# Altium footprint library Connector_JST.PcbLib: 558 footprints (part 5 of 35)
Each footprint in its own frame and in the unit in brackets; x right, y up, seen from the top. Pads: shape width x height; smd on the part's side, far side on the other; paste and mask are expansions set on the pad; w line width, h text height; cw(c..) or ccw(c..) is an arc to the next point about the centre after c.
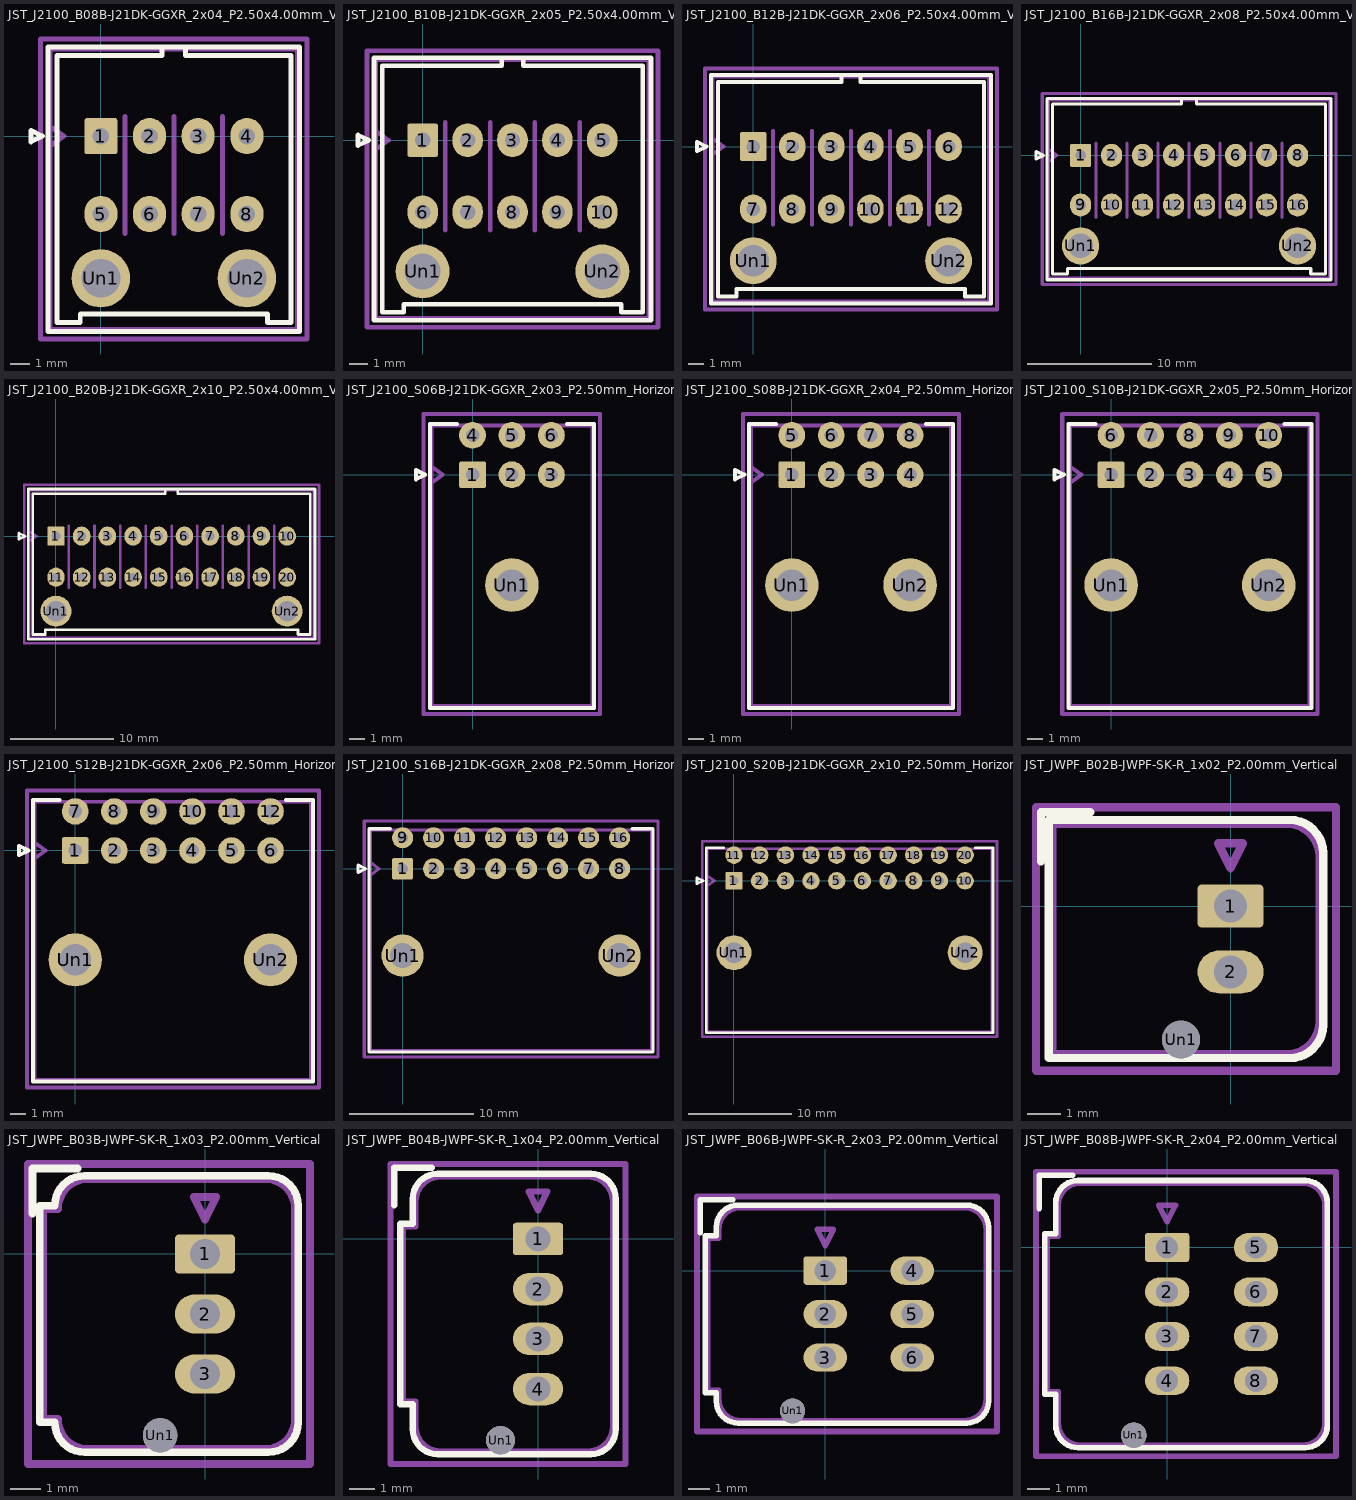
[diagram p4: the footprints below, top view; thin cyan lines are the x and y axes]

## JST_J2100_B08B-J21DK-GGXR_2x04_P2.50x4.00mm_Vertical [mm] "JST_J2100_B08B-J21DK-GGXR_2x04_P2.50x4.00mm_Vertical"
pads (10):
  rrect15% 1.7x1.86 hole 0.86: 1(0,0)
  rrect100% 1.7x1.86 hole 0.86: 2(2.5,0) 3(5,0) 4(7.5,0) 5(0,-4) 6(2.5,-4) 7(5,-4) 8(7.5,-4)
  round 3 hole 2: Un1(0,-7.3) Un2(7.5,-7.3)
F.SilkS:
  lines w0.254: 3.15,4.59 3.15,4.14 -2.26,4.14 -2.26,-9.58 -1.06,-9.58 -1.06,-9.13 3.75,-9.13 8.56,-9.13 8.56,-9.58 9.76,-9.58 9.76,4.14 4.35,4.14 4.35,4.59 ; -3.6,-0.3 -3,0 -3.6,0.3 -3.6,-0.3 ; -2.71,-10.03 10.21,-10.03 10.21,4.59 -2.71,4.59 -2.71,-10.03
Top Component Center:
  lines w0.127: -0.127,0 0.127,0 ; 0,-0.127 0,0.127
Top Assembly:
  lines w0.254: -2.6,-0.5 -1.893,0 -2.6,0.5 ; 1.25,-5 1.25,1 ; 3.75,-5 3.75,1 ; 6.25,-5 6.25,1 ; -2.6,-9.92 10.1,-9.92 10.1,4.48 -2.6,4.48 -2.6,-9.92
Top Courtyard:
  lines w0.254: -3.1,-10.42 10.6,-10.42 10.6,4.99 -3.1,4.99 -3.1,-10.42
Top Designator:
  text ".Designator" at 0.253,2.45 h1.52

## JST_J2100_B10B-J21DK-GGXR_2x05_P2.50x4.00mm_Vertical [mm] "JST_J2100_B10B-J21DK-GGXR_2x05_P2.50x4.00mm_Vertical"
pads (12):
  rrect15% 1.7x1.86 hole 0.86: 1(0,0)
  rrect100% 1.7x1.86 hole 0.86: 2(2.5,0) 3(5,0) 4(7.5,0) 5(10,0) 6(0,-4) 7(2.5,-4) 8(5,-4) 9(7.5,-4) 10(10,-4)
  round 3 hole 2: Un1(0,-7.3) Un2(10,-7.3)
F.SilkS:
  lines w0.254: 4.4,4.59 4.4,4.14 -2.26,4.14 -2.26,-9.58 -1.06,-9.58 -1.06,-9.13 5,-9.13 11.06,-9.13 11.06,-9.58 12.26,-9.58 12.26,4.14 5.6,4.14 5.6,4.59 ; -3.6,-0.3 -3,0 -3.6,0.3 -3.6,-0.3 ; -2.71,-10.03 12.71,-10.03 12.71,4.59 -2.71,4.59 -2.71,-10.03
Top Component Center:
  lines w0.127: -0.127,0 0.127,0 ; 0,-0.127 0,0.127
Top Assembly:
  lines w0.254: -2.6,-0.5 -1.893,0 -2.6,0.5 ; 1.25,-5 1.25,1 ; 3.75,-5 3.75,1 ; 6.25,-5 6.25,1 ; 8.75,-5 8.75,1 ; -2.6,-9.92 12.6,-9.92 12.6,4.48 -2.6,4.48 -2.6,-9.92
Top Courtyard:
  lines w0.254: -3.1,-10.42 13.1,-10.42 13.1,4.99 -3.1,4.99 -3.1,-10.42
Top Designator:
  text ".Designator" at 1.65,2.45 h1.52

## JST_J2100_B12B-J21DK-GGXR_2x06_P2.50x4.00mm_Vertical [mm] "JST_J2100_B12B-J21DK-GGXR_2x06_P2.50x4.00mm_Vertical"
pads (14):
  rrect15% 1.7x1.86 hole 0.86: 1(0,0)
  rrect100% 1.7x1.86 hole 0.86: 2(2.5,0) 3(5,0) 4(7.5,0) 5(10,0) 6(12.5,0) 7(0,-4) 8(2.5,-4) 9(5,-4) 10(7.5,-4) 11(10,-4) 12(12.5,-4)
  round 3 hole 2: Un1(0,-7.3) Un2(12.5,-7.3)
F.SilkS:
  lines w0.254: 5.65,4.59 5.65,4.14 -2.26,4.14 -2.26,-9.58 -1.06,-9.58 -1.06,-9.13 6.25,-9.13 13.56,-9.13 13.56,-9.58 14.76,-9.58 14.76,4.14 6.85,4.14 6.85,4.59 ; -3.6,-0.3 -3.6,0.3 -3,0 -3.6,-0.3 ; -2.71,-10.03 -2.71,4.59 15.21,4.59 15.21,-10.03 -2.71,-10.03
Top Component Center:
  lines w0.127: -0.127,0 0.127,0 ; 0,-0.127 0,0.127
Top Assembly:
  lines w0.254: -2.6,-0.5 -1.893,0 -2.6,0.5 ; 1.25,-5 1.25,1 ; 3.75,-5 3.75,1 ; 6.25,-5 6.25,1 ; 8.75,-5 8.75,1 ; 11.25,-5 11.25,1 ; -2.6,-9.92 -2.6,4.48 15.1,4.48 15.1,-9.92 -2.6,-9.92
Top Courtyard:
  lines w0.254: -3.1,-10.42 -3.1,4.99 15.6,4.99 15.6,-10.42 -3.1,-10.42
Top Designator:
  text ".Designator" at 2.92,2.196 h1.52

## JST_J2100_B16B-J21DK-GGXR_2x08_P2.50x4.00mm_Vertical [mm] "JST_J2100_B16B-J21DK-GGXR_2x08_P2.50x4.00mm_Vertical"
pads (18):
  rrect15% 1.7x1.86 hole 0.86: 1(0,0)
  rrect100% 1.7x1.86 hole 0.86: 2(2.5,0) 3(5,0) 4(7.5,0) 5(10,0) 6(12.5,0) 7(15,0) 8(17.5,0) 9(0,-4) 10(2.5,-4) 11(5,-4) 12(7.5,-4) 13(10,-4) 14(12.5,-4) 15(15,-4) 16(17.5,-4)
  round 3 hole 2: Un1(0,-7.3) Un2(17.5,-7.3)
F.SilkS:
  lines w0.254: 8.15,4.59 8.15,4.14 -2.26,4.14 -2.26,-9.58 -1.06,-9.58 -1.06,-9.13 8.75,-9.13 18.56,-9.13 18.56,-9.58 19.76,-9.58 19.76,4.14 9.35,4.14 9.35,4.59 ; -3.6,-0.3 -3,0 -3.6,0.3 -3.6,-0.3 ; -2.71,-10.03 20.21,-10.03 20.21,4.59 -2.71,4.59 -2.71,-10.03
Top Component Center:
  lines w0.127: -0.127,0 0.127,0 ; 0,-0.127 0,0.127
Top Assembly:
  lines w0.254: -2.6,-0.5 -1.893,0 -2.6,0.5 ; 1.25,-5 1.25,1 ; 3.75,-5 3.75,1 ; 6.25,-5 6.25,1 ; 8.75,-5 8.75,1 ; 11.25,-5 11.25,1 ; 13.75,-5 13.75,1 ; 16.25,-5 16.25,1 ; -2.6,-9.92 20.1,-9.92 20.1,4.48 -2.6,4.48 -2.6,-9.92
Top Courtyard:
  lines w0.254: -3.1,-10.42 20.6,-10.42 20.6,4.99 -3.1,4.99 -3.1,-10.42
Top Designator:
  text ".Designator" at 5.46,1.688 h1.52

## JST_J2100_B20B-J21DK-GGXR_2x10_P2.50x4.00mm_Vertical [mm] "JST_J2100_B20B-J21DK-GGXR_2x10_P2.50x4.00mm_Vertical"
pads (22):
  rrect15% 1.7x1.86 hole 0.86: 1(0,0)
  rrect100% 1.7x1.86 hole 0.86: 2(2.5,0) 3(5,0) 4(7.5,0) 5(10,0) 6(12.5,0) 7(15,0) 8(17.5,0) 9(20,0) 10(22.5,0) 11(0,-4) 12(2.5,-4) 13(5,-4) 14(7.5,-4) 15(10,-4) 16(12.5,-4) 17(15,-4) 18(17.5,-4) 19(20,-4) 20(22.5,-4)
  round 3 hole 2: Un1(0,-7.3) Un2(22.5,-7.3)
F.SilkS:
  lines w0.254: 10.65,4.59 10.65,4.14 -2.26,4.14 -2.26,-9.58 -1.06,-9.58 -1.06,-9.13 11.25,-9.13 23.56,-9.13 23.56,-9.58 24.76,-9.58 24.76,4.14 11.85,4.14 11.85,4.59 ; -3.6,-0.3 -3.6,0.3 -3,0 -3.6,-0.3 ; -2.71,-10.03 -2.71,4.59 25.21,4.59 25.21,-10.03 -2.71,-10.03
Top Component Center:
  lines w0.127: -0.127,0 0.127,0 ; 0,-0.127 0,0.127
Top Assembly:
  lines w0.254: -2.6,-0.5 -1.893,0 -2.6,0.5 ; 1.25,-5 1.25,1 ; 3.75,-5 3.75,1 ; 6.25,-5 6.25,1 ; 8.75,-5 8.75,1 ; 11.25,-5 11.25,1 ; 13.75,-5 13.75,1 ; 16.25,-5 16.25,1 ; 18.75,-5 18.75,1 ; 21.25,-5 21.25,1 ; -2.6,-9.92 -2.6,4.48 25.1,4.48 25.1,-9.92 -2.6,-9.92
Top Courtyard:
  lines w0.254: -3.1,-10.42 -3.1,4.99 25.6,4.99 25.6,-10.42 -3.1,-10.42
Top Designator:
  text ".Designator" at 7.619,1.815 h1.52

## JST_J2100_S06B-J21DK-GGXR_2x03_P2.50mm_Horizontal [mm] "JST_J2100_S06B-J21DK-GGXR_2x03_P2.50mm_Horizontal"
pads (7):
  rrect15% 1.7x1.7 hole 0.86: 1(0,0)
  round 1.7 hole 0.86: 2(2.5,0) 3(5,0) 4(0,2.5) 5(2.5,2.5) 6(5,2.5)
  round 3.4 hole 2: Un1(2.5,-7)
F.SilkS:
  lines w0.254: -1,3.23 -2.71,3.23 -2.71,-14.79 2.5,-14.79 7.71,-14.79 7.71,3.23 6,3.23 ; -3.6,-0.3 -3.6,0.3 -3,0 -3.6,-0.3
Top Component Center:
  lines w0.127: -0.127,0 0.127,0 ; 0,-0.127 0,0.127
Top Assembly:
  lines w0.254: -2.6,-0.5 -1.893,0 -2.6,0.5 ; -2.6,-14.68 -2.6,3.12 7.6,3.12 7.6,-14.68 -2.6,-14.68
Top Courtyard:
  lines w0.254: -3.1,-15.18 -3.1,3.85 8.1,3.85 8.1,-15.18 -3.1,-15.18
Top Designator:
  text ".Designator" at -1.271,-3.519 h1.52

## JST_J2100_S08B-J21DK-GGXR_2x04_P2.50mm_Horizontal [mm] "JST_J2100_S08B-J21DK-GGXR_2x04_P2.50mm_Horizontal"
pads (10):
  rrect15% 1.7x1.7 hole 0.86: 1(0,0)
  round 1.7 hole 0.86: 2(2.5,0) 3(5,0) 4(7.5,0) 5(0,2.5) 6(2.5,2.5) 7(5,2.5) 8(7.5,2.5)
  round 3.4 hole 2: Un1(0,-7) Un2(7.5,-7)
F.SilkS:
  lines w0.254: -1,3.23 -2.71,3.23 -2.71,-14.79 3.75,-14.79 10.21,-14.79 10.21,3.23 8.5,3.23 ; -3.6,-0.3 -3,0 -3.6,0.3 -3.6,-0.3
Top Component Center:
  lines w0.127: -0.127,0 0.127,0 ; 0,-0.127 0,0.127
Top Assembly:
  lines w0.254: -2.6,-0.5 -1.893,0 -2.6,0.5 ; -2.6,-14.68 10.1,-14.68 10.1,3.12 -2.6,3.12 -2.6,-14.68
Top Courtyard:
  lines w0.254: -3.1,-15.18 10.6,-15.18 10.6,3.85 -3.1,3.85 -3.1,-15.18
Top Designator:
  text ".Designator" at 0.38,-3.9 h1.52

## JST_J2100_S10B-J21DK-GGXR_2x05_P2.50mm_Horizontal [mm] "JST_J2100_S10B-J21DK-GGXR_2x05_P2.50mm_Horizontal"
pads (12):
  rrect15% 1.7x1.7 hole 0.86: 1(0,0)
  round 1.7 hole 0.86: 2(2.5,0) 3(5,0) 4(7.5,0) 5(10,0) 6(0,2.5) 7(2.5,2.5) 8(5,2.5) 9(7.5,2.5) 10(10,2.5)
  round 3.4 hole 2: Un1(0,-7) Un2(10,-7)
F.SilkS:
  lines w0.254: -1,3.23 -2.71,3.23 -2.71,-14.79 5,-14.79 12.71,-14.79 12.71,3.23 11,3.23 ; -3.6,-0.3 -3,0 -3.6,0.3 -3.6,-0.3
Top Component Center:
  lines w0.127: -0.127,0 0.127,0 ; 0,-0.127 0,0.127
Top Assembly:
  lines w0.254: -2.6,-0.5 -1.893,0 -2.6,0.5 ; -2.6,-14.68 12.6,-14.68 12.6,3.12 -2.6,3.12 -2.6,-14.68
Top Courtyard:
  lines w0.254: -3.1,-15.18 13.1,-15.18 13.1,3.85 -3.1,3.85 -3.1,-15.18
Top Designator:
  text ".Designator" at 1.523,-4.281 h1.52

## JST_J2100_S12B-J21DK-GGXR_2x06_P2.50mm_Horizontal [mm] "JST_J2100_S12B-J21DK-GGXR_2x06_P2.50mm_Horizontal"
pads (14):
  rrect15% 1.7x1.7 hole 0.86: 1(0,0)
  round 1.7 hole 0.86: 2(2.5,0) 3(5,0) 4(7.5,0) 5(10,0) 6(12.5,0) 7(0,2.5) 8(2.5,2.5) 9(5,2.5) 10(7.5,2.5) 11(10,2.5) 12(12.5,2.5)
  round 3.4 hole 2: Un1(0,-7) Un2(12.5,-7)
F.SilkS:
  lines w0.254: -1,3.23 -2.71,3.23 -2.71,-14.79 6.25,-14.79 15.21,-14.79 15.21,3.23 13.5,3.23 ; -3.6,-0.3 -3,0 -3.6,0.3 -3.6,-0.3
Top Component Center:
  lines w0.127: -0.127,0 0.127,0 ; 0,-0.127 0,0.127
Top Assembly:
  lines w0.254: -2.6,-0.5 -1.893,0 -2.6,0.5 ; -2.6,-14.68 15.1,-14.68 15.1,3.12 -2.6,3.12 -2.6,-14.68
Top Courtyard:
  lines w0.254: -3.1,-15.18 15.6,-15.18 15.6,3.85 -3.1,3.85 -3.1,-15.18
Top Designator:
  text ".Designator" at 3.047,-7.329 h1.52

## JST_J2100_S16B-J21DK-GGXR_2x08_P2.50mm_Horizontal [mm] "JST_J2100_S16B-J21DK-GGXR_2x08_P2.50mm_Horizontal"
pads (18):
  rrect15% 1.7x1.7 hole 0.86: 1(0,0)
  round 1.7 hole 0.86: 2(2.5,0) 3(5,0) 4(7.5,0) 5(10,0) 6(12.5,0) 7(15,0) 8(17.5,0) 9(0,2.5) 10(2.5,2.5) 11(5,2.5) 12(7.5,2.5) 13(10,2.5) 14(12.5,2.5) 15(15,2.5) 16(17.5,2.5)
  round 3.4 hole 2: Un1(0,-7) Un2(17.5,-7)
F.SilkS:
  lines w0.254: -1,3.23 -2.71,3.23 -2.71,-14.79 8.75,-14.79 20.21,-14.79 20.21,3.23 18.5,3.23 ; -3.6,-0.3 -3.6,0.3 -3,0 -3.6,-0.3
Top Component Center:
  lines w0.127: -0.127,0 0.127,0 ; 0,-0.127 0,0.127
Top Assembly:
  lines w0.254: -2.6,-0.5 -1.893,0 -2.6,0.5 ; -2.6,-14.68 -2.6,3.12 20.1,3.12 20.1,-14.68 -2.6,-14.68
Top Courtyard:
  lines w0.254: -3.1,-15.18 -3.1,3.85 20.6,3.85 20.6,-15.18 -3.1,-15.18
Top Designator:
  text ".Designator" at 5.07,-6.009 h1.52

## JST_J2100_S20B-J21DK-GGXR_2x10_P2.50mm_Horizontal [mm] "JST_J2100_S20B-J21DK-GGXR_2x10_P2.50mm_Horizontal"
pads (22):
  rrect15% 1.7x1.7 hole 0.86: 1(0,0)
  round 1.7 hole 0.86: 2(2.5,0) 3(5,0) 4(7.5,0) 5(10,0) 6(12.5,0) 7(15,0) 8(17.5,0) 9(20,0) 10(22.5,0) 11(0,2.5) 12(2.5,2.5) 13(5,2.5) 14(7.5,2.5) 15(10,2.5) 16(12.5,2.5) 17(15,2.5) 18(17.5,2.5) 19(20,2.5) 20(22.5,2.5)
  round 3.4 hole 2: Un1(0,-7) Un2(22.5,-7)
F.SilkS:
  lines w0.254: -1,3.23 -2.71,3.23 -2.71,-14.79 11.25,-14.79 25.21,-14.79 25.21,3.23 23.5,3.23 ; -3.6,-0.3 -3,0 -3.6,0.3 -3.6,-0.3
Top Component Center:
  lines w0.127: -0.127,0 0.127,0 ; 0,-0.127 0,0.127
Top Assembly:
  lines w0.254: -2.6,-0.5 -1.893,0 -2.6,0.5 ; -2.6,-14.68 25.1,-14.68 25.1,3.12 -2.6,3.12 -2.6,-14.68
Top Courtyard:
  lines w0.254: -3.1,-15.18 25.6,-15.18 25.6,3.85 -3.1,3.85 -3.1,-15.18
Top Designator:
  text ".Designator" at 7.57,-6.009 h1.52

## JST_JWPF_B02B-JWPF-SK-R_1x02_P2.00mm_Vertical [mm] "JST_JWPF_B02B-JWPF-SK-R_1x02_P2.00mm_Vertical"
pads (3):
  rrect19% 2x1.3 hole 1: 1(0,0)
  rrect100% 2x1.3 hole 1: 2(0,-2)
  round 1.15 hole 1.15: Un1(-1.5,-4.05)
F.SilkS:
  lines w0.254: -5.75,1.35 -5.75,2.85 -4.25,2.85 ; -5.51,-4.61 -5.51,2.61 1.81,2.61 cw(c1.81,1.61) 2.81,1.61 2.81,-3.61 cw(c1.81,-3.61) 1.81,-4.61 -5.51,-4.61
Top Component Center:
  lines w0.127: -0.127,0 0.127,0 ; 0,-0.127 0,0.127
Top Assembly:
  lines w0.254: -5.4,-4.5 -5.4,2.5 1.7,2.5 cw(c1.7,1.5) 2.7,1.5 2.7,-3.5 cw(c1.7,-3.5) 1.7,-4.5 -5.4,-4.5 ; -0.375,1.9 0.375,1.9 0,1.15 -0.375,1.9
Top Courtyard:
  lines w0.254: -5.9,-5 -5.9,3 3.2,3 3.2,-5 -5.9,-5
Top Designator:
  text ".Designator" at -4.027,2.541 h1.52

## JST_JWPF_B03B-JWPF-SK-R_1x03_P2.00mm_Vertical [mm] "JST_JWPF_B03B-JWPF-SK-R_1x03_P2.00mm_Vertical"
pads (4):
  rrect19% 2x1.3 hole 1: 1(0,0)
  rrect100% 2x1.3 hole 1: 2(0,-2) 3(0,-4)
  round 1.15 hole 1.15: Un1(-1.5,-6.05)
F.SilkS:
  lines w0.254: -5.75,1.35 -5.75,2.85 -4.25,2.85 ; -5.51,-5.61 -5.01,-5.61 ccw(c-4.01,-5.61) -4.01,-6.61 2.11,-6.61 ccw(c2.11,-5.61) 3.11,-5.61 3.11,1.61 ccw(c2.11,1.61) 2.11,2.61 -4.01,2.61 ccw(c-4.01,1.61) -5.01,1.61 -5.51,1.61 -5.51,-5.61
Top Component Center:
  lines w0.127: -0.127,0 0.127,0 ; 0,-0.127 0,0.127
Top Assembly:
  lines w0.254: -5.4,-5.5 -4.9,-5.5 ccw(c-3.9,-5.5) -3.9,-6.5 2,-6.5 ccw(c2,-5.5) 3,-5.5 3,1.5 ccw(c2,1.5) 2,2.5 -3.9,2.5 ccw(c-3.9,1.5) -4.9,1.5 -5.4,1.5 -5.4,-5.5 ; -0.375,1.9 0,1.15 0.375,1.9 -0.375,1.9
Top Courtyard:
  lines w0.254: -5.9,-7 3.5,-7 3.5,3 -5.9,3 -5.9,-7
Top Designator:
  text ".Designator" at -2.577,-5.462 h1.52

## JST_JWPF_B04B-JWPF-SK-R_1x04_P2.00mm_Vertical [mm] "JST_JWPF_B04B-JWPF-SK-R_1x04_P2.00mm_Vertical"
pads (5):
  rrect19% 2x1.3 hole 1: 1(0,0)
  rrect100% 2x1.3 hole 1: 2(0,-2) 3(0,-4) 4(0,-6)
  round 1.15 hole 1.15: Un1(-1.5,-8.05)
F.SilkS:
  lines w0.254: -5.75,1.35 -5.75,2.85 -4.25,2.85 ; -5.51,-6.61 -5.01,-6.61 -5.01,-7.61 ccw(c-4.01,-7.61) -4.01,-8.61 2.11,-8.61 ccw(c2.11,-7.61) 3.11,-7.61 3.11,1.61 ccw(c2.11,1.61) 2.11,2.61 -4.01,2.61 ccw(c-4.01,1.61) -5.01,1.61 -5.01,0.61 -5.51,0.61 -5.51,-6.61
Top Component Center:
  lines w0.127: -0.127,0 0.127,0 ; 0,-0.127 0,0.127
Top Assembly:
  lines w0.254: -5.4,-6.5 -4.9,-6.5 -4.9,-7.5 ccw(c-3.9,-7.5) -3.9,-8.5 2,-8.5 ccw(c2,-7.5) 3,-7.5 3,1.5 ccw(c2,1.5) 2,2.5 -3.9,2.5 ccw(c-3.9,1.5) -4.9,1.5 -4.9,0.5 -5.4,0.5 -5.4,-6.5 ; -0.375,1.9 0,1.15 0.375,1.9 -0.375,1.9
Top Courtyard:
  lines w0.254: -5.9,-9 3.5,-9 3.5,3 -5.9,3 -5.9,-9
Top Designator:
  text ".Designator" at -3.519,0.509 h1.52

## JST_JWPF_B06B-JWPF-SK-R_2x03_P2.00mm_Vertical [mm] "JST_JWPF_B06B-JWPF-SK-R_2x03_P2.00mm_Vertical"
pads (7):
  rrect19% 2x1.3 hole 1: 1(0,0)
  rrect100% 2x1.3 hole 1: 2(0,-2) 3(0,-4) 4(4,0) 5(4,-2) 6(4,-4)
  round 1.15 hole 1.15: Un1(-1.5,-6.45)
F.SilkS:
  lines w0.254: -5.75,1.75 -5.75,3.25 -4.25,3.25 ; -5.51,-5.61 -5.01,-5.61 -5.01,-6.01 ccw(c-4.01,-6.01) -4.01,-7.01 6.51,-7.01 ccw(c6.51,-6.01) 7.51,-6.01 7.51,2.01 ccw(c6.51,2.01) 6.51,3.01 -4.01,3.01 ccw(c-4.01,2.01) -5.01,2.01 -5.01,1.61 -5.51,1.61 -5.51,-5.61
Top Component Center:
  lines w0.127: -0.127,0 0.127,0 ; 0,-0.127 0,0.127
Top Assembly:
  lines w0.254: -5.4,-5.5 -4.9,-5.5 -4.9,-5.9 ccw(c-3.9,-5.9) -3.9,-6.9 6.4,-6.9 ccw(c6.4,-5.9) 7.4,-5.9 7.4,1.9 ccw(c6.4,1.9) 6.4,2.9 -3.9,2.9 ccw(c-3.9,1.9) -4.9,1.9 -4.9,1.5 -5.4,1.5 -5.4,-5.5 ; -0.375,1.9 0,1.15 0.375,1.9 -0.375,1.9
Top Courtyard:
  lines w0.254: -5.9,-7.4 7.9,-7.4 7.9,3.41 -5.9,3.41 -5.9,-7.4
Top Designator:
  text ".Designator" at -3.773,1.271 h1.52

## JST_JWPF_B08B-JWPF-SK-R_2x04_P2.00mm_Vertical [mm] "JST_JWPF_B08B-JWPF-SK-R_2x04_P2.00mm_Vertical"
pads (9):
  rrect19% 2x1.3 hole 1: 1(0,0)
  rrect100% 2x1.3 hole 1: 2(0,-2) 3(0,-4) 4(0,-6) 5(4,0) 6(4,-2) 7(4,-4) 8(4,-6)
  round 1.15 hole 1.15: Un1(-1.5,-8.45)
F.SilkS:
  lines w0.254: -5.75,1.75 -5.75,3.25 -4.25,3.25 ; -5.51,-6.61 -5.01,-6.61 -5.01,-8.01 ccw(c-4.01,-8.01) -4.01,-9.01 6.21,-9.01 ccw(c6.21,-8.01) 7.21,-8.01 7.21,2.01 ccw(c6.21,2.01) 6.21,3.01 -4.01,3.01 ccw(c-4.01,2.01) -5.01,2.01 -5.01,0.61 -5.51,0.61 -5.51,-6.61
Top Component Center:
  lines w0.127: -0.127,0 0.127,0 ; 0,-0.127 0,0.127
Top Assembly:
  lines w0.254: -5.4,-6.5 -4.9,-6.5 -4.9,-7.9 ccw(c-3.9,-7.9) -3.9,-8.9 6.1,-8.9 ccw(c6.1,-7.9) 7.1,-7.9 7.1,1.9 ccw(c6.1,1.9) 6.1,2.9 -3.9,2.9 ccw(c-3.9,1.9) -4.9,1.9 -4.9,0.5 -5.4,0.5 -5.4,-6.5 ; -0.375,1.9 0,1.15 0.375,1.9 -0.375,1.9
Top Courtyard:
  lines w0.254: -5.9,-9.4 7.6,-9.4 7.6,3.41 -5.9,3.41 -5.9,-9.4
Top Designator:
  text ".Designator" at -3.085,-6.351 h1.52